# Altium footprint library my_battery.PCBLIB: 41 footprints (part 1 of 3)
Each footprint in its own frame and in the unit in brackets; x right, y up, seen from the top. Pads: shape width x height; smd on the part's side, far side on the other; paste and mask are expansions set on the pad; w line width, h text height; cw(c..) or ccw(c..) is an arc to the next point about the centre after c.
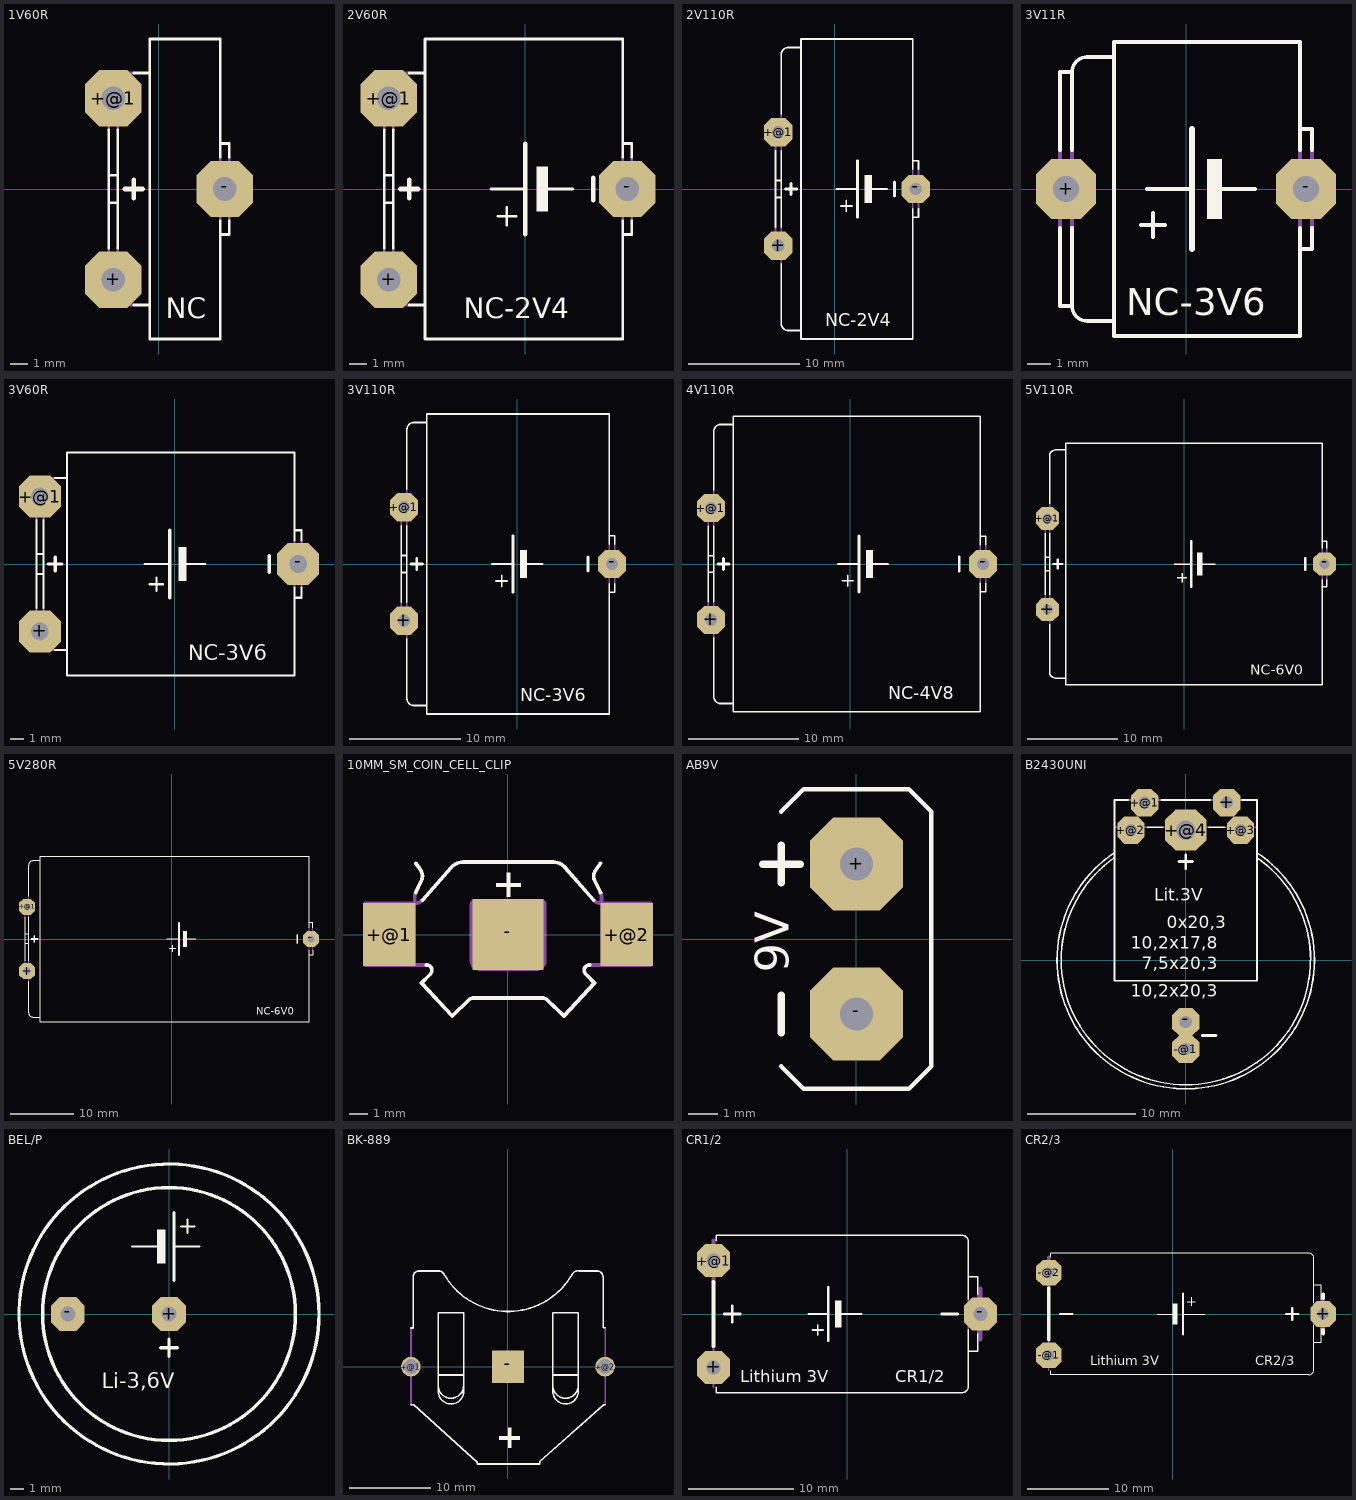
[diagram p0: the footprints below, top view; thin cyan lines are the x and y axes]

## 1V60R [mil]
pads (3):
  oct 124x124 hole 52: +(-100,-200) +@1(-100,200) -(145,0)
Top Overlay:
  lines w6: -110,-130 -110,-30 ; -110,130 -110,30 ; -90,-130 -90,-30 ; -90,130 -90,30 ; -55,-255 -20,-255 ; -55,255 -20,255 ; 135,-70 135,-100 ; 135,70 135,100 ; 155,-70 155,-100 135,-100 ; 155,70 155,100 135,100 ; -110,-30 -90,-30 ; -110,-30 -110,30 ; -110,30 -90,30 ; -90,-30 -90,30 ; -20,-255 -20,255 ; -20,-255 -20,-330 135,-330 135,-100 ; -20,255 -20,330 135,330 135,100
  lines w10: -75,0 -35,0 ; -55,-20 -55,20
  text "NC" at 15,-300 h77.5
Mechanical 16:
  lines w6: -110,-130 -110,-230 -90,-230 ; -110,130 -110,230 -90,230 ; -90,-130 -90,-230 ; -90,130 -90,230 ; -55,-255 -65,-255 cw(c-65,-230) -90,-230 ; -55,255 -65,255 ccw(c-65,230) -90,230 ; 135,-70 135,-30 ; 135,70 135,30 ; 155,-70 155,-30 ; 155,70 155,30 ; 135,-30 155,-30 ; 135,-30 135,30 ; 135,30 155,30 ; 155,-30 155,30
  lines w10: 100,-25 100,25

## 2V60R [mil]
pads (3):
  oct 124x124 hole 52: +(-300,-200) +@1(-300,200) -(225,0)
Top Overlay:
  rectangle: 25,-50 50,50
  lines w6: -310,-130 -310,-30 ; -310,130 -310,30 ; -290,-130 -290,-30 ; -290,130 -290,30 ; -255,-255 -220,-255 ; -255,255 -220,255 ; -75,0 0,0 ; -60,-60 -20,-60 ; -40,-80 -40,-40 ; 50,0 105,0 ; 215,-70 215,-100 ; 215,70 215,100 ; 235,-70 235,-100 215,-100 ; 235,70 235,100 215,100 ; -310,-30 -290,-30 ; -310,-30 -310,30 ; -310,30 -290,30 ; -290,-30 -290,30 ; -220,-255 -220,255 ; -220,-255 -220,-330 215,-330 215,-100 ; -220,255 -220,330 215,330 215,100
  lines w10: -275,0 -235,0 ; -255,-20 -255,20 ; 0,-100 0,0 0,100 ; 150,-25 150,25
  text "NC-2V4" at -135,-300 h77.5
Mechanical 16:
  lines w6: -310,-130 -310,-230 -290,-230 ; -310,130 -310,230 -290,230 ; -290,-130 -290,-230 ; -290,130 -290,230 ; -255,-255 -265,-255 cw(c-265,-230) -290,-230 ; -255,255 -265,255 ccw(c-265,230) -290,230 ; 215,-70 215,-30 ; 215,70 215,30 ; 235,-70 235,-30 ; 235,70 235,30 ; 215,-30 235,-30 ; 215,-30 215,30 ; 215,30 235,30 ; 235,-30 235,30

## 2V110R [mil]
pads (3):
  oct 100x100 hole 44: +(-200,-200) +@1(-200,200) -(285,0)
Top Overlay:
  rectangle: 105,-50 130,50
  lines w6: -210,-135 -210,-30 ; -210,135 -210,30 ; -190,-265 -190,-475 ccw(c-165,-475) -165,-500 -120,-500 ; -190,-135 -190,-30 ; -190,135 -190,30 ; -190,265 -190,475 cw(c-165,475) -165,500 -120,500 ; 5,0 80,0 ; 20,-60 60,-60 ; 40,-80 40,-40 ; 130,0 185,0 ; 275,-70 275,-100 ; 275,70 275,100 ; 295,-70 295,-100 275,-100 ; 295,70 295,100 275,100 ; -210,-30 -190,-30 ; -210,-30 -210,30 ; -210,30 -190,30 ; -190,-30 -190,30 ; -120,-500 -120,500 ; -120,-500 -120,-530 275,-530 275,-100 ; -120,500 -120,530 275,530 275,100
  lines w10: -175,0 -135,0 ; -155,-20 -155,20 ; 80,-100 80,0 80,100 ; 210,-25 210,25
  text "NC-2V4" at -35,-500 h77.5
Mechanical 16:
  lines w6: -210,-135 -210,-230 -190,-230 ; -210,135 -210,230 -190,230 ; -190,-265 -190,-230 ; -190,-135 -190,-230 ; -190,135 -190,230 ; -190,265 -190,230 ; 275,-70 275,-30 ; 275,70 275,30 ; 295,-70 295,-30 ; 295,70 295,30 ; 275,-30 295,-30 ; 275,-30 275,30 ; 275,30 295,30 ; 295,-30 295,30

## 3V11R [mil]
pads (2):
  oct 100x100 hole 44: +(-200,0) -(200,0)
Top Overlay:
  rectangle: 35,-50 60,50
  lines w6: -210,-65 -210,-195 -190,-195 ; -210,65 -210,195 -190,195 ; -190,-65 -190,-195 ; -190,65 -190,195 ; -75,-60 -35,-60 ; -65,0 10,0 ; -55,-80 -55,-40 ; 60,0 115,0 ; 190,-65 190,-100 ; 190,65 190,100 ; 210,-65 210,-100 190,-100 ; 210,65 210,100 190,100 ; -190,-195 ccw(c-165,-195) -165,-220 -120,-220 ; -190,195 cw(c-165,195) -165,220 -120,220 ; -120,-220 -120,220 ; -120,-220 -120,-245 190,-245 190,-100 ; -120,220 -120,245 190,245 190,100
  lines w10: 10,-100 10,0 10,100
  text "NC-3V6" at -100,-225 h77.5
Mechanical 16:
  lines w6: -210,-65 -210,-30 ; -210,65 -210,30 ; -190,-65 -190,-30 ; -190,65 -190,30 ; 190,-65 190,-30 ; 190,65 190,30 ; 210,-65 210,-30 ; 210,65 210,30 ; -210,-30 -190,-30 ; -210,-30 -210,30 ; -210,30 -190,30 ; -190,-30 -190,30 ; 190,-30 210,-30 ; 190,-30 190,30 ; 190,30 210,30 ; 210,-30 210,30

## 3V60R [mil]
pads (3):
  oct 124x124 hole 52: +(-400,-200) +@1(-400,200) -(365,0)
Top Overlay:
  rectangle: 10,-50 35,50
  lines w6: -410,-130 -410,-30 ; -410,130 -410,30 ; -390,-130 -390,-30 ; -390,130 -390,30 ; -355,-255 -320,-255 ; -355,255 -320,255 ; -90,0 -15,0 ; -75,-60 -35,-60 ; -55,-80 -55,-40 ; 35,0 90,0 ; 355,-70 355,-100 ; 355,70 355,100 ; 375,-70 375,-100 355,-100 ; 375,70 375,100 355,100 ; -410,-30 -390,-30 ; -410,-30 -410,30 ; -410,30 -390,30 ; -390,-30 -390,30 ; -320,-255 -320,255 ; -320,-255 -320,-330 355,-330 355,-100 ; -320,255 -320,330 355,330 355,100
  lines w10: -375,0 -335,0 ; -355,-20 -355,20 ; -15,-100 -15,0 -15,100 ; 280,-25 280,25
  text "NC-3V6" at 40,-300 h77.5
Mechanical 16:
  lines w6: -410,-130 -410,-230 -390,-230 ; -410,130 -410,230 -390,230 ; -390,-130 -390,-230 ; -390,130 -390,230 ; -355,-255 -365,-255 cw(c-365,-230) -390,-230 ; -355,255 -365,255 ccw(c-365,230) -390,230 ; 355,-70 355,-30 ; 355,70 355,30 ; 375,-70 375,-30 ; 375,70 375,30 ; 355,-30 375,-30 ; 355,-30 355,30 ; 355,30 375,30 ; 375,-30 375,30

## 3V110R [mil]
pads (3):
  oct 100x100 hole 44: +(-400,-200) +@1(-400,200) -(335,0)
Top Overlay:
  rectangle: 10,-50 35,50
  lines w6: -410,-135 -410,-30 ; -410,135 -410,30 ; -390,-265 -390,-475 ccw(c-365,-475) -365,-500 -320,-500 ; -390,-135 -390,-30 ; -390,135 -390,30 ; -390,265 -390,475 cw(c-365,475) -365,500 -320,500 ; -90,0 -15,0 ; -75,-60 -35,-60 ; -55,-80 -55,-40 ; 35,0 90,0 ; 325,-70 325,-100 ; 325,70 325,100 ; 345,-70 345,-100 325,-100 ; 345,70 345,100 325,100 ; -410,-30 -390,-30 ; -410,-30 -410,30 ; -410,30 -390,30 ; -390,-30 -390,30 ; -320,-500 -320,500 ; -320,-500 -320,-530 325,-530 325,-100 ; -320,500 -320,530 325,530 325,100
  lines w10: -375,0 -335,0 ; -355,-20 -355,20 ; -15,-100 -15,0 -15,100 ; 250,-25 250,25
  text "NC-3V6" at 10,-500 h77.5
Mechanical 16:
  lines w6: -410,-135 -410,-230 -390,-230 ; -410,135 -410,230 -390,230 ; -390,-265 -390,-230 ; -390,-135 -390,-230 ; -390,135 -390,230 ; -390,265 -390,230 ; 325,-70 325,-30 ; 325,70 325,30 ; 345,-70 345,-30 ; 345,70 345,30 ; 325,-30 345,-30 ; 325,-30 325,30 ; 325,30 345,30 ; 345,-30 345,30

## 4V110R [mil]
pads (3):
  oct 100x100 hole 44: +(-500,-200) +@1(-500,200) -(475,0)
Top Overlay:
  rectangle: 55,-50 80,50
  lines w6: -510,-135 -510,-30 ; -510,135 -510,30 ; -490,-265 -490,-475 ccw(c-465,-475) -465,-500 -420,-500 ; -490,-135 -490,-30 ; -490,135 -490,30 ; -490,265 -490,475 cw(c-465,475) -465,500 -420,500 ; -45,0 30,0 ; -30,-60 10,-60 ; -10,-80 -10,-40 ; 80,0 135,0 ; 465,-70 465,-100 ; 465,70 465,100 ; 485,-70 485,-100 465,-100 ; 485,70 485,100 465,100 ; -510,-30 -490,-30 ; -510,-30 -510,30 ; -510,30 -490,30 ; -490,-30 -490,30 ; -420,-500 -420,500 ; -420,-500 -420,-530 465,-530 465,-100 ; -420,500 -420,530 465,530 465,100
  lines w10: -475,0 -435,0 ; -455,-20 -455,20 ; 30,-100 30,0 30,100 ; 390,-25 390,25
  text "NC-4V8" at 135,-500 h77.5
Mechanical 16:
  lines w6: -510,-135 -510,-230 -490,-230 ; -510,135 -510,230 -490,230 ; -490,-265 -490,-230 ; -490,-135 -490,-230 ; -490,135 -490,230 ; -490,265 -490,230 ; 465,-70 465,-30 ; 465,70 465,30 ; 485,-70 485,-30 ; 485,70 485,30 ; 465,-30 485,-30 ; 465,-30 465,30 ; 465,30 485,30 ; 485,-30 485,30

## 5V110R [mil]
pads (3):
  oct 100x100 hole 44: +(-600,-200) +@1(-600,200) -(615,0)
Top Overlay:
  rectangle: 55,-50 80,50
  lines w6: -610,-135 -610,-30 ; -610,135 -610,30 ; -590,-265 -590,-475 ccw(c-565,-475) -565,-500 -520,-500 ; -590,-135 -590,-30 ; -590,135 -590,30 ; -590,265 -590,475 cw(c-565,475) -565,500 -520,500 ; -45,0 30,0 ; -30,-60 10,-60 ; -10,-80 -10,-40 ; 80,0 135,0 ; 605,-70 605,-100 ; 605,70 605,100 ; 625,-70 625,-100 605,-100 ; 625,70 625,100 605,100 ; -610,-30 -590,-30 ; -610,-30 -610,30 ; -610,30 -590,30 ; -590,-30 -590,30 ; -520,-500 -520,500 ; -520,-500 -520,-530 605,-530 605,-100 ; -520,500 -520,530 605,530 605,100
  lines w10: -575,0 -535,0 ; -555,-20 -555,20 ; 30,-100 30,0 30,100 ; 530,-25 530,25
  text "NC-6V0" at 290,-500 h77.5
Mechanical 16:
  lines w6: -610,-135 -610,-230 -590,-230 ; -610,135 -610,230 -590,230 ; -590,-265 -590,-230 ; -590,-135 -590,-230 ; -590,135 -590,230 ; -590,265 -590,230 ; 605,-70 605,-30 ; 605,70 605,30 ; 625,-70 625,-30 ; 625,70 625,30 ; 605,-30 625,-30 ; 605,-30 605,30 ; 605,30 625,30 ; 625,-30 625,30

## 5V280R [mil]
pads (3):
  oct 100x100 hole 44: +(-900,-200) +@1(-900,200) -(865,0)
Top Overlay:
  rectangle: 70,-50 95,50
  lines w6: -910,-135 -910,-30 ; -910,135 -910,30 ; -890,-265 -890,-460 ccw(c-865,-460) -865,-485 -820,-485 ; -890,-135 -890,-30 ; -890,135 -890,30 ; -890,265 -890,460 cw(c-865,460) -865,485 -820,485 ; -30,0 45,0 ; -15,-60 25,-60 ; 5,-80 5,-40 ; 95,0 150,0 ; 855,-70 855,-100 ; 855,70 855,100 ; 875,-70 875,-100 855,-100 ; 875,70 875,100 855,100 ; -910,-30 -890,-30 ; -910,-30 -910,30 ; -910,30 -890,30 ; -890,-30 -890,30 ; -820,-485 -820,485 ; -820,-485 -820,-515 855,-515 855,-100 ; -820,485 -820,515 855,515 855,100
  lines w10: -875,0 -835,0 ; -855,-20 -855,20 ; 45,-100 45,0 45,100 ; 780,-25 780,25
  text "NC-6V0" at 525,-485 h77.5
Mechanical 16:
  lines w6: -910,-135 -910,-230 -890,-230 ; -910,135 -910,230 -890,230 ; -890,-265 -890,-230 ; -890,-135 -890,-230 ; -890,135 -890,230 ; -890,265 -890,230 ; 855,-70 855,-30 ; 855,70 855,30 ; 875,-70 875,-30 ; 875,70 875,30 ; 855,-30 875,-30 ; 855,-30 855,30 ; 855,30 875,30 ; 875,-30 875,30

## 10MM_SM_COIN_CELL_CLIP [mil]
pads (3):
  rect 115x138 smd: +@1(-259.84,0) +@2(260,0)
  rect 156x156 smd: -(0,0)
Top Overlay:
  rectangle: -3.39,82 6,136
  rectangle: -25.99,104 29,113
  lines w8: -202.26,92 -189.83,118 ccw(c-210.93,128.12) -192.09,142 -202.26,156 ; -187.57,75 -124.29,147 cw(c-98.61,125.53) -98.3,159 2,159 ; -178.53,-66.67 cw(c-178.53,-78.47) -171.75,-88.13 -189.83,-106.21 -122.03,-178.53 -85.87,-143.5 cw(c-74.71,-155.02) -74.57,-138.98 75,-138.98 cw(c74.99,-154.66) 86,-143.5 123,-178.53 190,-106.21 172,-88.13 cw(c178.89,-78.5) 179,-66.67 ; -1.13,159 99,159 cw(c99.32,125.52) 125,147 188,75 ; 203,92 190,118 cw(c211.47,127.5) 193,142 203,156
Mechanical 16:
  circle w8: c-259.88,3 r33
  circle w8: c260,3 r33
  lines w8: -206.78,-63.28 -206.78,67 ; -204.52,72 -204.52,85 cw(c-192.89,85.11) -202.26,92 ; -187.57,75 cw(c-201.55,88.27) -201.13,69 -312.99,69 -312.99,-66.67 -178.53,-66.67 ; -59.89,65 -59.89,-27.12 ccw(c-41.81,-27.12) -41.81,-45.2 42,-45.2 ccw(c41.96,-27.16) 60,-27.12 60,65 ; -59.89,66 ccw(c-67.84,66.05) -67.8,74 -71.19,74 ccw(c-71.2,64.98) -80.22,65 -80.22,-56.5 ccw(c-61.02,-56.5) -61.02,-75.7 62,-75.7 ccw(c61.9,-56.6) 81,-56.5 81,65 ccw(c72,65) 72,74 68,74 ccw(c68,66) 60,66 ; 179,-66.67 313,-66.67 313,69 202,69 cw(c202.2,88.8) 188,75 ; 203,92 cw(c193.5,85.5) 205,85 205,72 ; 207,-63.28 207,67

## AB9V [mil]
pads (2):
  oct 124x124 hole 44: +(0,100) -(0,-100)
Top Overlay:
  lines w6: -100,-170 -70,-200 70,-200 100,-170 100,170 70,200 -70,200 -100,170
  lines w10: -125,100 -75,100 ; -100,-125 -100,-75 ; -100,75 -100,125
  text "9V" at -75,-45 h77.5
Mechanical 16:
  circle w6: c0,100 r50
  circle w6: c0,-100 r50

## B2430UNI [mil]
pads (7):
  oct 100x100 hole 44: +(150,575) +@1(-150,575) +@2(-200,475) +@3(200,475) -(0,-225) -@1(0,-325)
  oct 150x150 hole 71: +@4(0,475)
Top Overlay:
  lines w6: -261.98,373 ccw(c0.95,0.5) -455,0 ccw(c0,0) 455,0 ; -260.71,392 ccw(c0.88,0.47) -470,0 ccw(c0,0) 470,0 ccw(c0.26,0.61) 260,392 ; -210,585 -260,585 -260,-75 260,-75 260,585 205,585 ; -140,485 -85,485 ; -90,585 90,585 ; 85,485 140,485 ; 259,375 cw(c0.28,-0.16) 456,0
  lines w10: -25,360 25,360 ; 0,335 0,385 ; 60,-275 110,-275
  text "Lit.3V" at -115,200 h77.5
  text "10,2x17,8" at -200,25 h77.5
  text "10,2x20,3" at -200,-150 h77.5
  text "7,5x20,3" at -160,-50 h77.5
  text "0x20,3" at -70,100 h77.5
Mechanical 16:
  lines w6: -260,485 -140,485 ; -210,585 -90,585 ; -85,485 85,485 ; 90,585 205,585 ; 140,485 260,485

## BEL/P [mil]
pads (2):
  oct 100x100 hole 44: +(0,0) -(-300,0)
Top Overlay:
  circle w10: c0,0 r445
  circle w10: c0,0 r375
  rectangle: -35,150 -10,250
  lines w6: -110,200 -35,200 ; 15,200 90,200 ; 35,260 75,260 ; 55,240 55,280
  lines w10: -25,-100 25,-100 ; 0,-125 0,-75 ; 15,100 15,200 15,300
  text "Li-3,6V" at -200,-235 h77.5

## BK-889 [mil]
pads (3):
  round 95 hole 73: +@1(-469.49,0) +@2(470,0)
  rect 156x156 smd: -(0,0)
Top Overlay:
  rectangle: -42.39,-353.97 58,-334.89
  rectangle: 0,-392.12 17,-294.62
  lines w8: -468.42,-184.4 -455.71,-184.4 -148.37,-462.07 -148.37,-470.54 153,-470.54 153,-459.95 463,-184.4 471,-184.4 ; -468.42,187 -457.83,187 -457.83,435 cw(c-430.05,435.22) -430.27,463 -334.89,463 cw(c-335.03,433.7) -309.46,448 ccw(c0.84,623.54) 310,446 cw(c339.81,428.87) 344,463 431,463 cw(c430.5,433.5) 460,433 460,189 471,189 ; -337.01,-91.14 -337.01,-116.58 ccw(c-275.56,-118.7) -214.08,-118.7 -214.08,-93.26 ; -337.01,-40.27 -216.2,-40.27 ; 217,-91.14 217,-116.58 ccw(c278.48,-118.7) 340,-118.7 340,-93.26 ; 217,-40.27 338,-40.27 ; -337.01,-89.02 ccw(c-275.56,-91.14) -214.08,-91.14 -214.08,261 -337.01,261 -337.01,-89.02 ; 217,-89.02 ccw(c278.48,-91.14) 340,-91.14 340,261 217,261 217,-89.02
Mechanical 16:
  lines w8: -470.54,34 -495.98,34 -495.98,-29.67 -468.42,-29.67 ; -468.42,-184.4 -468.42,-29.67 ; -468.42,187 -468.42,-29.67 ; 471,-184.4 471,-29.67 ; 471,189 471,32 ; 471,-29.67 471,32 ; 471,-29.67 501,-29.67 501,32 471,32

## CR1/2 [mil]
pads (3):
  oct 124x124 hole 52: +(-500,-200) +@1(-500,200) -(500,0)
Top Overlay:
  rectangle: -45,-50 -20,50
  lines w6: -490,-275 -490,-295 430,-295 ccw(c430,-270) 455,-270 455,-140 ; -490,275 -490,295 430,295 cw(c430,270) 455,270 455,140 ; -145,0 -70,0 ; -130,-60 -90,-60 ; -110,-80 -110,-40 ; -20,0 55,0 ; 455,-60 455,-140 ; 455,55 455,140 ; 490,-75 490,-140 455,-140 ; 490,75 490,140 455,140
  lines w10: -460,0 -400,0 ; -430,-30 -430,30 ; -70,-100 -70,0 -70,100 ; 355,0 415,0
  lines w16: -500,-120 -500,120
  text "Lithium 3V" at -400,-270 h77.5
  text "CR1/2" at 180,-270 h77.5
Mechanical 16:
  lines w6: -500,-275 -500,-120 ; 455,-60 455,55 ; 490,-75 490,75
  lines w16: -500,120 -500,275 ; 500,-95 500,95

## CR2/3 [mil]
pads (3):
  oct 124x124 hole 52: +(730,0) -@1(-600,-200) -@2(-600,200)
Top Overlay:
  region: 25,50 0,50 0,-50 25,-50
  lines w6: -590,-275 -590,-295 660,-295 ccw(c660,-270) 685,-270 685,-140 ; -590,275 -590,295 660,295 cw(c660,270) 685,270 685,140 ; -75,0 0,0 ; 50,0 155,0 ; 70,60 110,60 ; 90,40 90,80 ; 685,-55 685,-140 ; 685,55 685,140 ; 720,-70 720,-140 685,-140 ; 720,70 720,140 685,140
  lines w10: -545,0 -485,0 ; 50,-100 50,0 50,100 ; 550,0 610,0 ; 580,-30 580,30
  lines w16: -600,-125 -600,125 ; 730,-95 730,-75 ; 730,75 730,95
  text "Lithium 3V" at -400,-265 h77.5
  text "CR2/3" at 400,-265 h77.5
Mechanical 16:
  lines w6: -600,-275 -600,-125 ; 685,-55 685,55 ; 720,-70 720,70
  lines w16: -600,125 -600,275 ; 730,-75 730,75